# EAGLE library part ATSAM3U2CA-AU (library NSL_Tracker-2.0)
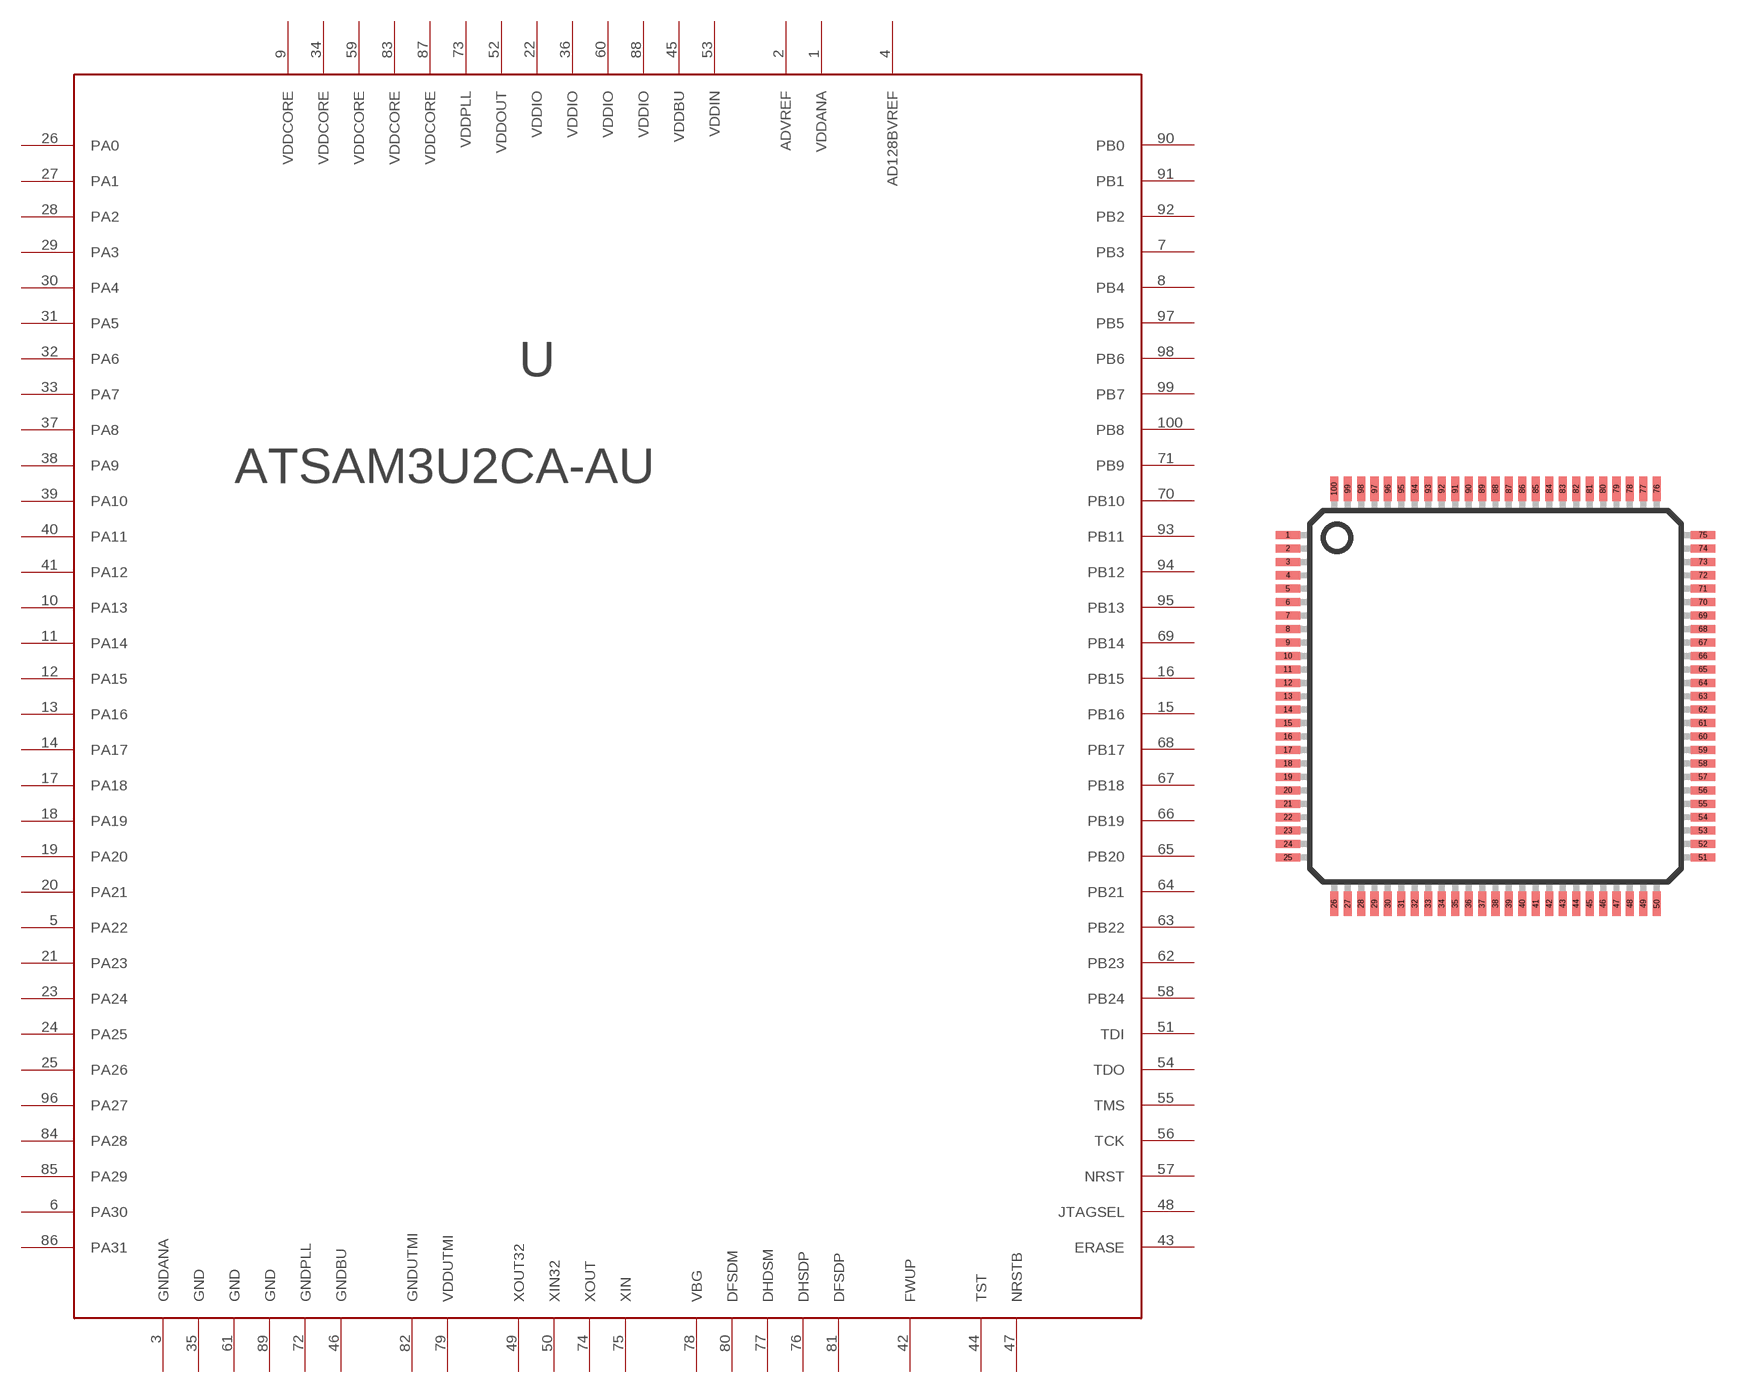
[diagram p4: symbol with the pads of LQFP100; footprint LQFP100]

Designator prefix -

## ATSAM3U2CA-AU-LQFP100  [LQFP100]
1  VDDANA
2  ADVREF
3  GNDANA
4  AD128BVREF
5  PA22
6  PA30
7  PB3
8  PB4
9  VDDCORE
10  PA13
11  PA14
12  PA15
13  PA16
14  PA17
15  PB16
16  PB15
17  PA18
18  PA19
19  PA20
20  PA21
21  PA23
22  VDDIO
23  PA24
24  PA25
25  PA26
26  PA0
27  PA1
28  PA2
29  PA3
30  PA4
31  PA5
32  PA6
33  PA7
34  VDDCORE
35  GND
36  VDDIO
37  PA8
38  PA9
39  PA10
40  PA11
41  PA12
42  FWUP
43  ERASE
44  TST
45  VDDBU
46  GNDBU
47  NRSTB
48  JTAGSEL
49  XOUT32
50  XIN32
51  TDI
52  VDDOUT
53  VDDIN
54  TDO
55  TMS
56  TCK
57  NRST
58  PB24
59  VDDCORE
60  VDDIO
61  GND
62  PB23
63  PB22
64  PB21
65  PB20
66  PB19
67  PB18
68  PB17
69  PB14
70  PB10
71  PB9
72  GNDPLL
73  VDDPLL
74  XOUT
75  XIN
76  DHSDP
77  DHDSM
78  VBG
79  VDDUTMI
80  DFSDM
81  DFSDP
82  GNDUTMI
83  VDDCORE
84  PA28
85  PA29
86  PA31
87  VDDCORE
88  VDDIO
89  GND
90  PB0
91  PB1
92  PB2
93  PB11
94  PB12
95  PB13
96  PA27
97  PB5
98  PB6
99  PB7
100  PB8

## Footprint LQFP100 (pad centres in mm)
smd 0.9 x 0.3: 1 -7.72,6; 2 -7.72,5.5; 3 -7.72,5; 4 -7.72,4.5; 5 -7.72,4; 6 -7.72,3.5; 7 -7.72,3; 8 -7.72,2.5; 9 -7.72,2; 10 -7.72,1.5; 11 -7.72,1; 12 -7.72,0.5; 13 -7.72,0; 14 -7.72,-0.5; 15 -7.72,-1; 16 -7.72,-1.5; 17 -7.72,-2; 18 -7.72,-2.5; 19 -7.72,-3; 20 -7.72,-3.5; 21 -7.72,-4; 22 -7.72,-4.5; 23 -7.72,-5; 24 -7.72,-5.5; 25 -7.72,-6; 51 7.72,-6; 52 7.72,-5.5; 53 7.72,-5; 54 7.72,-4.5; 55 7.72,-4; 56 7.72,-3.5; 57 7.72,-3; 58 7.72,-2.5; 59 7.72,-2; 60 7.72,-1.5; 61 7.72,-1; 62 7.72,-0.5; 63 7.72,0; 64 7.72,0.5; 65 7.72,1; 66 7.72,1.5; 67 7.72,2; 68 7.72,2.5; 69 7.72,3; 70 7.72,3.5; 71 7.72,4; 72 7.72,4.5; 73 7.72,5; 74 7.72,5.5; 75 7.72,6
smd 0.3 x 0.9: 26 -6,-7.72; 27 -5.5,-7.72; 28 -5,-7.72; 29 -4.5,-7.72; 30 -4,-7.72; 31 -3.5,-7.72; 32 -3,-7.72; 33 -2.5,-7.72; 34 -2,-7.72; 35 -1.5,-7.72; 36 -1,-7.72; 37 -0.5,-7.72; 38 0,-7.72; 39 0.5,-7.72; 40 1,-7.72; 41 1.5,-7.72; 42 2,-7.72; 43 2.5,-7.72; 44 3,-7.72; 45 3.5,-7.72; 46 4,-7.72; 47 4.5,-7.72; 48 5,-7.72; 49 5.5,-7.72; 50 6,-7.72; 76 6,7.72; 77 5.5,7.72; 78 5,7.72; 79 4.5,7.72; 80 4,7.72; 81 3.5,7.72; 82 3,7.72; 83 2.5,7.72; 84 2,7.72; 85 1.5,7.72; 86 1,7.72; 87 0.5,7.72; 88 0,7.72; 89 -0.5,7.72; 90 -1,7.72; 91 -1.5,7.72; 92 -2,7.72; 93 -2.5,7.72; 94 -3,7.72; 95 -3.5,7.72; 96 -4,7.72; 97 -4.5,7.72; 98 -5,7.72; 99 -5.5,7.72; 100 -6,7.72